# Altium footprint library Crystall.PcbLib: 11 footprints
Each footprint in its own frame and in the unit in brackets; x right, y up, seen from the top. Pads: shape width x height; smd on the part's side, far side on the other; paste and mask are expansions set on the pad; w line width, h text height; cw(c..) or ccw(c..) is an arc to the next point about the centre after c.
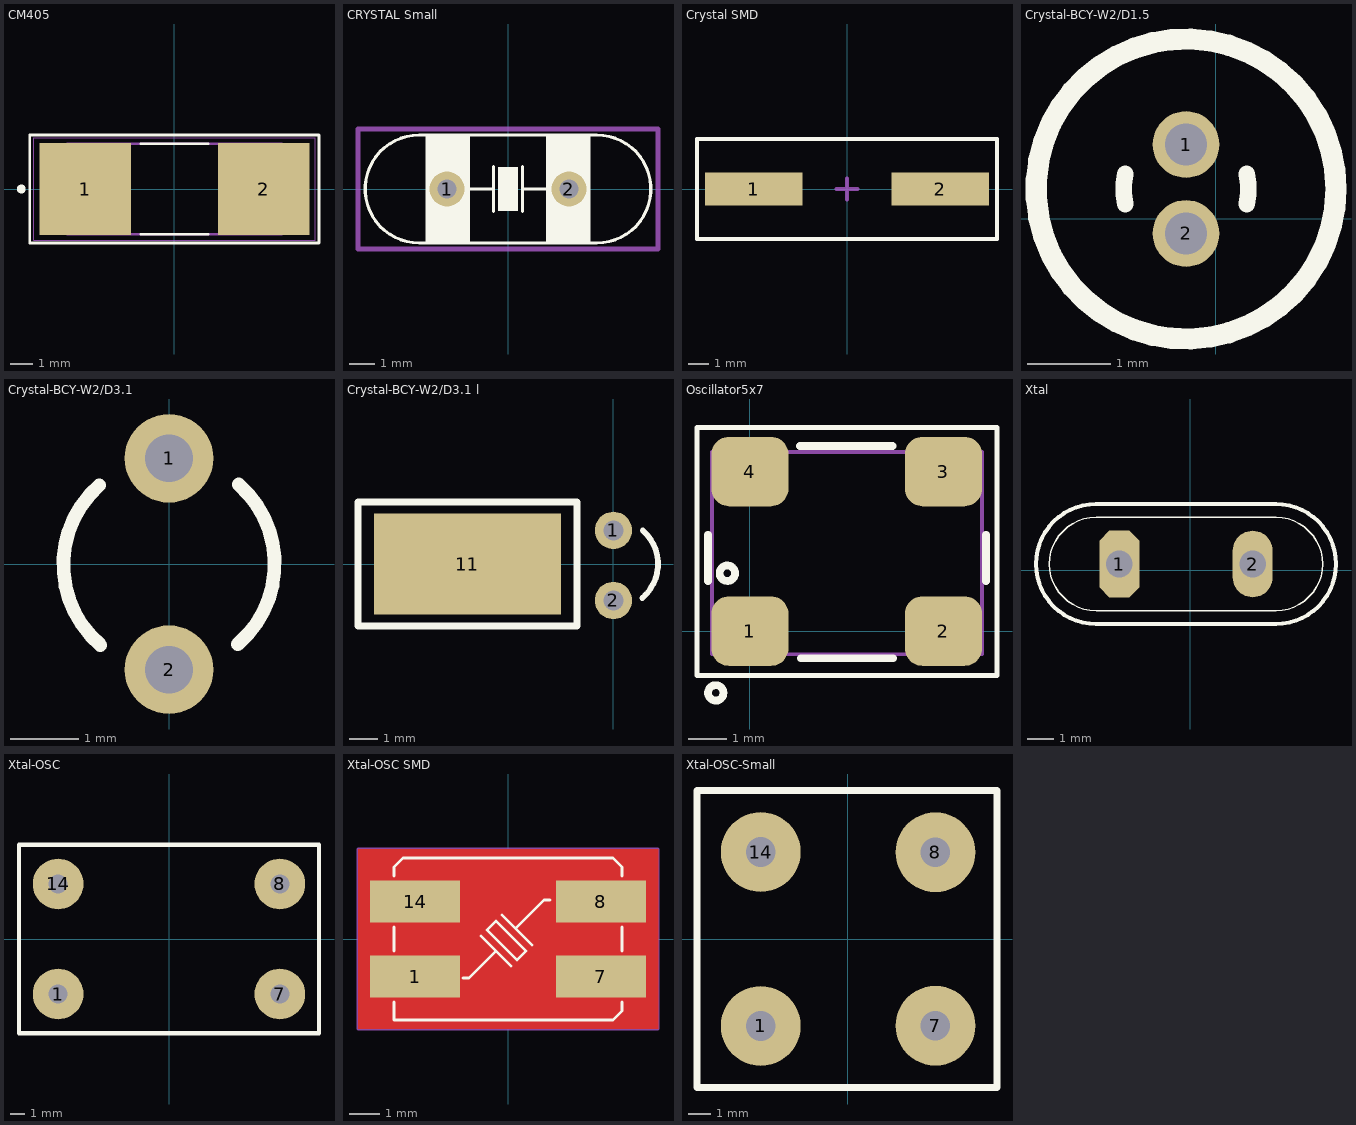
[diagram p0: the footprints below, top view; thin cyan lines are the x and y axes]

## CM405 [mm]
pads (2):
  rect 4.1x4.1 smd: 1(-4,0) 2(4,0)
Top Overlay:
  circle w0.2: c-6.858,0 r0.1
  lines w0.127: -1.5,-2.03 1.5,-2.03 ; -1.5,2.03 1.5,2.03 ; -6.477,-2.413 -6.477,2.413 6.477,2.413 6.477,-2.413 -6.477,-2.413
Mechanical 4:
  lines w0.127: -4.8,-2.03 -4.8,2.03 ; -4.8,-2.03 4.8,-2.03 ; -4.8,-2.03 -4.8,2.03 ; -4.8,-2.03 4.8,-2.03 ; -4.8,2.03 4.8,2.03 ; -4.8,2.03 4.8,2.03 ; 4.8,-2.03 4.8,2.03 ; 4.8,-2.03 4.8,2.03
Mechanical 16:
  lines w0.05: -6.3,-2.3 -6.3,2.3 6.3,2.3 6.3,-2.3 -6.3,-2.3
3D body "User Library-HC49_SMD.STEP": height 5.18, standoff 0, extent -6.15,-2.25 6.15,2.25

## CRYSTAL Small [mil] "DESIGNER ABBAS BASEREH"
height 157.48
pads (2):
  round 55 hole 30: 1(-96.06,0) 2(96.06,0)
Top Overlay:
  rectangle: 60,-85 130,85
  rectangle: -130,-85 -60,85
  rectangle: -15.75,-35 15.75,35
  lines w5: -60.87,0 -22.87,0 ; -22.87,-35 -22.87,35 ; 22.87,-35 22.87,35 ; 22.87,0 61.87,0 ; -140,-85 cw(c-140,0) -140,85 140,85 cw(c140,0) 140,-85 -140,-85
Mechanical 15:
  lines w7.87: -7.87,0 7.87,0 ; 0,-7.87 0,7.87 ; -236.22,-94.49 236.22,-94.49 236.22,94.49 -236.22,94.49 -236.22,-94.49
3D body "Crystal-3.8mm.STEP": height 142.13, standoff -76.77, extent -226.37,-88.58 226.38,88.59

## Crystal SMD [mm] "DESIGNER ABBAS BASEREH"
height 4
pads (2):
  rect 4.7x1.6 smd: 1(-4.504,0) 2(4.504,0)
Top Overlay:
  lines w0.2: -7.242,-2.413 7.239,-2.413 7.239,2.413 -7.242,2.413 -7.242,-2.413
Mechanical 15:
  lines w0.2: -0.5,0 0.5,0 ; 0,-0.5 0,0.5 ; -7.239,-2.413 -7.239,2.413 7.239,2.413 7.239,-2.413 -7.239,-2.413
3D body "User Library-HC49_SMD.STEP": height 5.18, standoff 0, extent -6.209,-2.25 6.091,2.25

## Crystal-BCY-W2/D1.5 [mm] "Crystal, Thru-Hole; 2 Leads; Body 1.5 x 5.1 mm (Dia.xH)"
height 5.1
pads (2):
  round 0.8 hole 0.5: 1(-0.356,0.889) 2(-0.356,-0.178)
Top Overlay:
  circle w0.254: c-0.356,0.356 r1.8
  lines w0.2: -1.083,0.174 cw(c-0.356,0.356) -1.083,0.537 ; 0.372,0.174 ccw(c-0.356,0.356) 0.372,0.537
3D body "User Library-Crystal Radial 1_1mm pitch.STEP": height 8.2, standoff -2.95, extent -1.906,-1.194 1.194,1.906

## Crystal-BCY-W2/D3.1 [mm] "Crystal, Thru-Hole; 2 Leads; Body 3.1 x 8.2 mm (Dia.xH)"
height 8.2
pads (2):
  round 1.3 hole 0.7: 1(0,1.55) 2(0,-1.55)
Top Overlay:
  lines w0.2: -1.022,1.155 ccw(c0,-0.01) -1.006,-1.189 ; 1.006,-1.179 ccw(c0,0) 1.022,1.165
3D body "User Library-Crystal TH.STEP": height 9.33, standoff -1.55, extent -1.888,-1.725 1.686,1.725

## Crystal-BCY-W2/D3.1 l [mm]
pads (3):
  round 1.3 hole 0.7: 1(0,1.169) 2(0,-1.27)
  rect 6.5x3.5 smd: 11(-5.08,0)
Top Overlay:
  lines w0.2: 1.006,-1.179 ccw(c0,0) 1.022,1.165
  lines w0.254: -8.89,-2.159 -1.778,-2.159 -1.27,-2.159 -1.27,2.159 -8.89,2.159 -8.89,-2.159
3D body "User Library-XTAL.STEP": height 2.15, standoff -1.77, extent -8.232,-1.391 0.149,1.391

## Oscillator5x7 [mm] "DFN-4, 7x5mm"
height 0.508
pads (4):
  rrect50% 2x1.8 smd: 1(0,0.005) 2(5.015,0.005) 3(5.015,4.14) 4(0,4.14)
Top Overlay:
  circle w0.2: c-0.885,-1.595 r0.2
  circle w0.2: c-0.585,1.505 r0.2
  lines w0.127: -1.372,-1.143 6.401,-1.143 6.401,5.283 -1.372,5.283 -1.372,-1.143
  lines w0.2: -1.085,1.305 -1.085,2.505 ; 1.295,4.801 3.695,4.801 ; 1.315,-0.695 3.715,-0.695 ; 6.115,1.305 6.115,2.505
Mechanical 13:
  circle w0.1: c-0.385,0.005 r0.3
  lines w0.1: -0.985,-0.595 6.015,-0.595 6.015,4.648 -0.985,4.648 -0.985,-0.595
3D body "User Library-CTS-CB3_7x5.step": height 1.71, standoff 0, extent -0.96,-0.468 6.04,4.532

## Xtal [mil]
height 196.85
pads (2):
  oct 60x100 hole 40: 1(-106,9)
  oval 60x100 hole 40: 2(94,9)
Top Overlay:
  lines w2: -141,-61 cw(c-141,9) -141,79 129,79 cw(c129,9) 129,-61 -141,-61
  lines w6: -141,-81 cw(c-141,9) -141,99 129,99 cw(c129,9) 129,-81 -141,-81
3D body "SW3dPS-XTAL2.STEP": height 161.17, standoff -60.63, extent -215,-51 205,69

## Xtal-OSC [mm]
height 10
pads (4):
  round 3.5 hole 1.3: 1(-7.65,-3.8) 7(7.65,-3.8) 8(7.65,3.8) 14(-7.65,3.8)
Top Overlay:
  lines w0.3: -10.35,-6.5 10.35,-6.5 10.35,6.5 -10.35,6.5 -10.35,-6.5
3D body "User Library-OSC_DIP-14.STEP": height 5.6, standoff -1, extent -10.1,-6.35 10.1,6.35

## Xtal-OSC SMD [mm] "High frequency stability and reliability.DESIGNER ABBAS BASEREH"
height 1.2
pads (4):
  rect 3x1.4 smd: 1(-3.1,-1.25) 7(3.1,-1.25) 8(3.1,1.25) 14(-3.1,1.25)
Top Layer:
  pour cut-out: -5,3 -5,-3 5,-3 5,3
Top Overlay:
  lines w0.1: -3.8,-2.1 -3.8,-2.7 3.5,-2.7 3.8,-2.4 3.8,-2.1 ; -3.8,-0.4 -3.8,0.4 ; -3.8,2.1 -3.8,2.4 -3.5,2.7 3.5,2.7 3.8,2.4 3.8,2.1 ; -1.5,-1.3 -1.3,-1.3 -0.4,-0.4 ; -0.9,0.1 0.1,-0.9 ; -0.2,0.8 0.8,-0.2 ; 0.3,0.4 1.2,1.3 1.4,1.3 ; 3.8,-0.4 3.8,0.4 ; -0.7,0.3 0.3,-0.7 0.6,-0.4 ; -0.7,0.3 -0.7,0.3 ; -0.7,0.3 -0.4,0.6 0.6,-0.4 ; 0.6,-0.4 0.6,-0.4
Mechanical 15:
  lines w0.1: -0.5,0 0.5,0 ; 0,-0.5 0,0.5 ; -5,-3 -5,3 5,3 5,-3 -5,-3
3D body "User Library-KX-13 7_0x5_0x1_3.STEP": height 1.3, standoff 0, extent -3.525,-2.5 3.475,2.5

## Xtal-OSC-Small [mm]
height 10
pads (4):
  round 3.5 hole 1.3: 1(-3.81,-3.81) 7(3.84,-3.8) 8(3.84,3.8) 14(-3.81,3.81)
Top Overlay:
  lines w0.3: -6.604,-6.5 -6.604,6.5 6.54,6.5 6.54,-6.5 -6.604,-6.5
3D body "User Library-OSC_DIP-8.STEP": height 5.6, standoff -1, extent -6.35,-6.35 6.35,6.35